# Altium footprint library M_Omega2p_Module.PcbLib: 1 footprints
Each footprint in its own frame and in the unit in brackets; x right, y up, seen from the top. Pads: shape width x height; smd on the part's side, far side on the other; paste and mask are expansions set on the pad; w line width, h text height; cw(c..) or ccw(c..) is an arc to the next point about the centre after c.
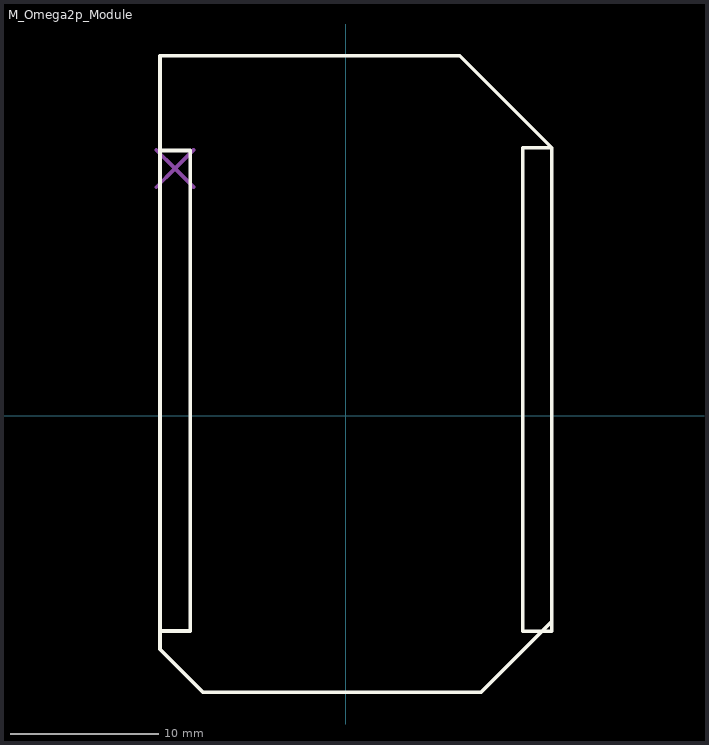
[diagram p0: the footprint, top view; thin cyan lines are the x and y axes]

## M_Omega2p_Module [mm]
height 9.906
Top Overlay:
  lines w0.254: -12.51,-14.52 -10.47,-14.52 -10.47,17.87 -12.47,17.87 ; 13.9,18.05 7.7,24.25 -12.5,24.25 -12.5,-15.75 -9.6,-18.65 9.125,-18.65 13.9,-13.875 13.9,18.05 ; 13.9,18.05 11.95,18.05 11.95,-14.54 13.88,-14.54 13.9,-14.52 13.9,18.05
Mechanical 1:
  lines w0.254: -12.757,15.393 -11.5,16.65 ; -12.757,17.907 -11.5,16.65 ; -10.252,15.402 -11.5,16.65 ; -10.248,17.902 -11.5,16.65
3D body "Onion Omega2+.STEP": height 9.87, standoff 0.13, extent -12.5,-18.45 13.9,24.25